# EAGLE library part HDR_2X05 (library GPLIB_CONN)
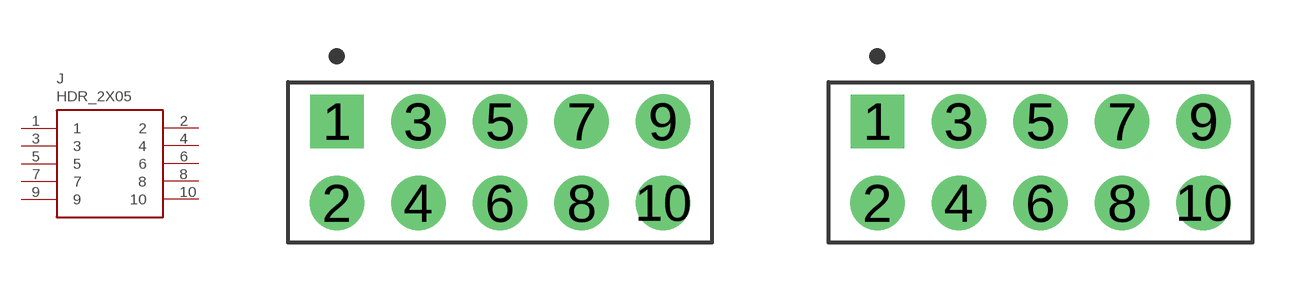
[diagram p4: symbol with the pads of HDR_2X05_2.54MM_TH_ST_11.0MM_HT_FEM; footprints HDR_2X05_2.54MM_TH_ST_11.0MM_HT_FEM, HDR_2X05_2.54MM_TH_ST_5.0MM_HT_FEM]

Designator prefix J

## HDR_2X05_2.54MM_TH_ST_11P0_HT_FEM  [HDR_2X05_2.54MM_TH_ST_11.0MM_HT_FEM]
1  1  pas
2  2  pas
3  3  pas
4  4  pas
5  5  pas
6  6  pas
7  7  pas
8  8  pas
9  9  pas
10  10  pas

## HDR_2X05_2.54MM_TH_ST_5P0_HT_FEM  [HDR_2X05_2.54MM_TH_ST_5.0MM_HT_FEM]
Pads as for HDR_2X05_2.54MM_TH_ST_11.0MM_HT_FEM

## HDR_2X05_2.54MM_SM_RA_MALE  [HDR_2X05_2.54MM_TH_RA]
Pads as for HDR_2X05_2.54MM_TH_ST_11.0MM_HT_FEM

## HDR_2X05_2.54MM_TH_RA_FEM  [HDR_2X05_2.54MM_TH_RA_FEM]
Pads as for HDR_2X05_2.54MM_TH_ST_11.0MM_HT_FEM

## HDR_2X05_2.54MM_TH_ST_MALE  [HDR_2X05_2.54MM_TH_ST]
Pads as for HDR_2X05_2.54MM_TH_ST_11.0MM_HT_FEM

## Footprint HDR_2X05_2.54MM_TH_ST_11.0MM_HT_FEM (pad centres in mm)
drill 1.105 square: 1 -5.08,1.27
drill 1.105 pad 1.705: 2 -5.08,-1.27; 3 -2.54,1.27; 4 -2.54,-1.27; 5 0,1.27; 6 0,-1.27; 7 2.54,1.27; 8 2.54,-1.27; 9 5.08,1.27; 10 5.08,-1.27

## Footprint HDR_2X05_2.54MM_TH_ST_5.0MM_HT_FEM (pad centres in mm)
drill 1.105 square: 1 -5.08,1.27
drill 1.105 pad 1.705: 2 -5.08,-1.27; 3 -2.54,1.27; 4 -2.54,-1.27; 5 0,1.27; 6 0,-1.27; 7 2.54,1.27; 8 2.54,-1.27; 9 5.08,1.27; 10 5.08,-1.27

## Footprint HDR_2X05_2.54MM_TH_RA (pad centres in mm)
drill 1.1 pad 1.7: 1 -5.08,-1.27; 2 -5.08,1.27; 3 -2.54,-1.27; 4 -2.54,1.27; 5 0,-1.27; 6 0,1.27; 7 2.54,-1.27; 8 2.54,1.27; 9 5.08,-1.27; 10 5.08,1.27

## Footprint HDR_2X05_2.54MM_TH_RA_FEM (pad centres in mm)
drill 1.1 pad 1.8: 1 5.08,-1.27; 2 5.08,1.27; 3 2.54,-1.27; 4 2.54,1.27; 5 0,-1.27; 6 0,1.27; 7 -2.54,-1.27; 8 -2.54,1.27; 9 -5.08,-1.27; 10 -5.08,1.27

## Footprint HDR_2X05_2.54MM_TH_ST (pad centres in mm)
drill 1.1 pad 1.8: 1 -5.08,-1.27; 2 -5.08,1.27; 3 -2.54,-1.27; 4 -2.54,1.27; 5 0,-1.27; 6 0,1.27; 7 2.54,-1.27; 8 2.54,1.27; 9 5.08,-1.27; 10 5.08,1.27